# EAGLE library part TLC555 (library omcReferences)
TLC555 - LinCMOS Timer Very Low Power Consumption 1 mW Typ at VDD = 5 V Capable of Operation in Astable Mode CMOS Output Capable of Swinging Rail to Rail High Output-Current Capability Sink 100 mA Typ Source 10 mA Typ Output Fully Compatible With CMOS, TTL, and MOS Low Supply Current Reduces Spikes During Output Transitions Single-Supply Operation From 2 V to 15 V Functionally Interchangeable With the NE555; Has Same Pinout Datasheet Texas Instruments <http://www.ti.com/lit/ds/symlink/tlc555.pdf> Reichelt <https://cdn-reichelt.de/documents/datenblatt/A200/TLC555-TI.pdf>
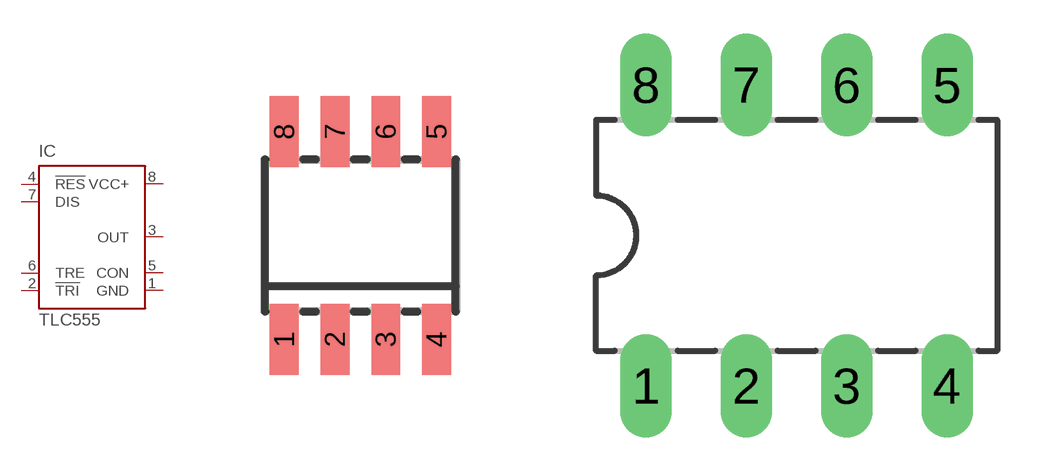
[diagram p2: symbol with the pads of SOIC08; footprints SOIC08, PDIP8]

Designator prefix IC

## TLC555ID (DIST#REICHELT#: TLC 555 ID; VALUE: TLC555; VENDOR#: TI,TLC555ID)  [SOIC08]
1  GND  pwr
2  !TRI  in
3  OUT  out
4  !RES  in
5  CON  in
6  TRE  in
7  DIS  in
8  VCC+  pwr

## TLC555CP (DIST#REICHELT#: TLC 555 CP; VALUE: TLC555)  [PDIP8]
Pads as for SOIC08

## Footprint SOIC08 (pad centres in mm)
SOIC08 SMD 5mm×6.2mm Wikipedia <https://en.wikipedia.org/wiki/Small_Outline_Integrated_Circuit>
smd 0.72 x 1.78: 1 -1.905,-2.6; 2 -0.635,-2.6; 3 0.635,-2.6; 4 1.905,-2.6; 5 1.905,2.6; 6 0.635,2.6; 7 -0.635,2.6; 8 -1.905,2.6

## Footprint PDIP8 (pad centres in mm)
DIL8 Dual-in-line package THT 10.16mm×7.62mm Wikipedia <https://en.wikipedia.org/wiki/Dual_in-line_package>
drill 0.8 long: 1 0,0; 2 2.54,0; 3 5.08,0; 4 7.62,0; 5 7.62,7.62; 6 5.08,7.62; 7 2.54,7.62; 8 0,7.62